# Altium footprint library MCU_Board_fNIRS.PcbLib: 17 footprints (part 2 of 2)
Each footprint in its own frame and in the unit in brackets; x right, y up, seen from the top. Pads: shape width x height; smd on the part's side, far side on the other; paste and mask are expansions set on the pad; w line width, h text height; cw(c..) or ccw(c..) is an arc to the next point about the centre after c.
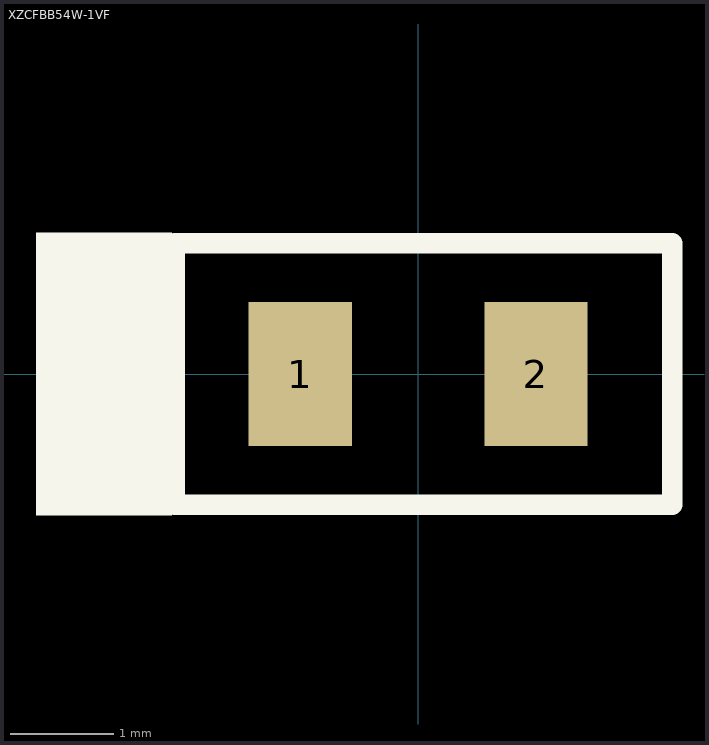
[diagram p1: the footprint, top view; thin cyan lines are the x and y axes]

## XZCFBB54W-1VF [mm]
pads (2):
  rect 1x1.4 smd: 1(-1.143,0) 2(1.143,0)
Top Overlay:
  rectangle: -3.708,-1.372 -2.388,1.372
  lines w0.2: -2.362,-1.27 2.465,-1.27 2.465,0 2.465,1.27 -2.362,1.27 -2.362,0.738 -2.362,-1.27
3D body "SML-LXT0805IW-TR--3DModel-STEP-269445.STEP": height 0.9, standoff 0, extent -1,-0.625 1,0.675